# Altium footprint library TPs.PcbLib: 12 footprints
Each footprint in its own frame and in the unit in brackets; x right, y up, seen from the top. Pads: shape width x height; smd on the part's side, far side on the other; paste and mask are expansions set on the pad; w line width, h text height; cw(c..) or ccw(c..) is an arc to the next point about the centre after c.
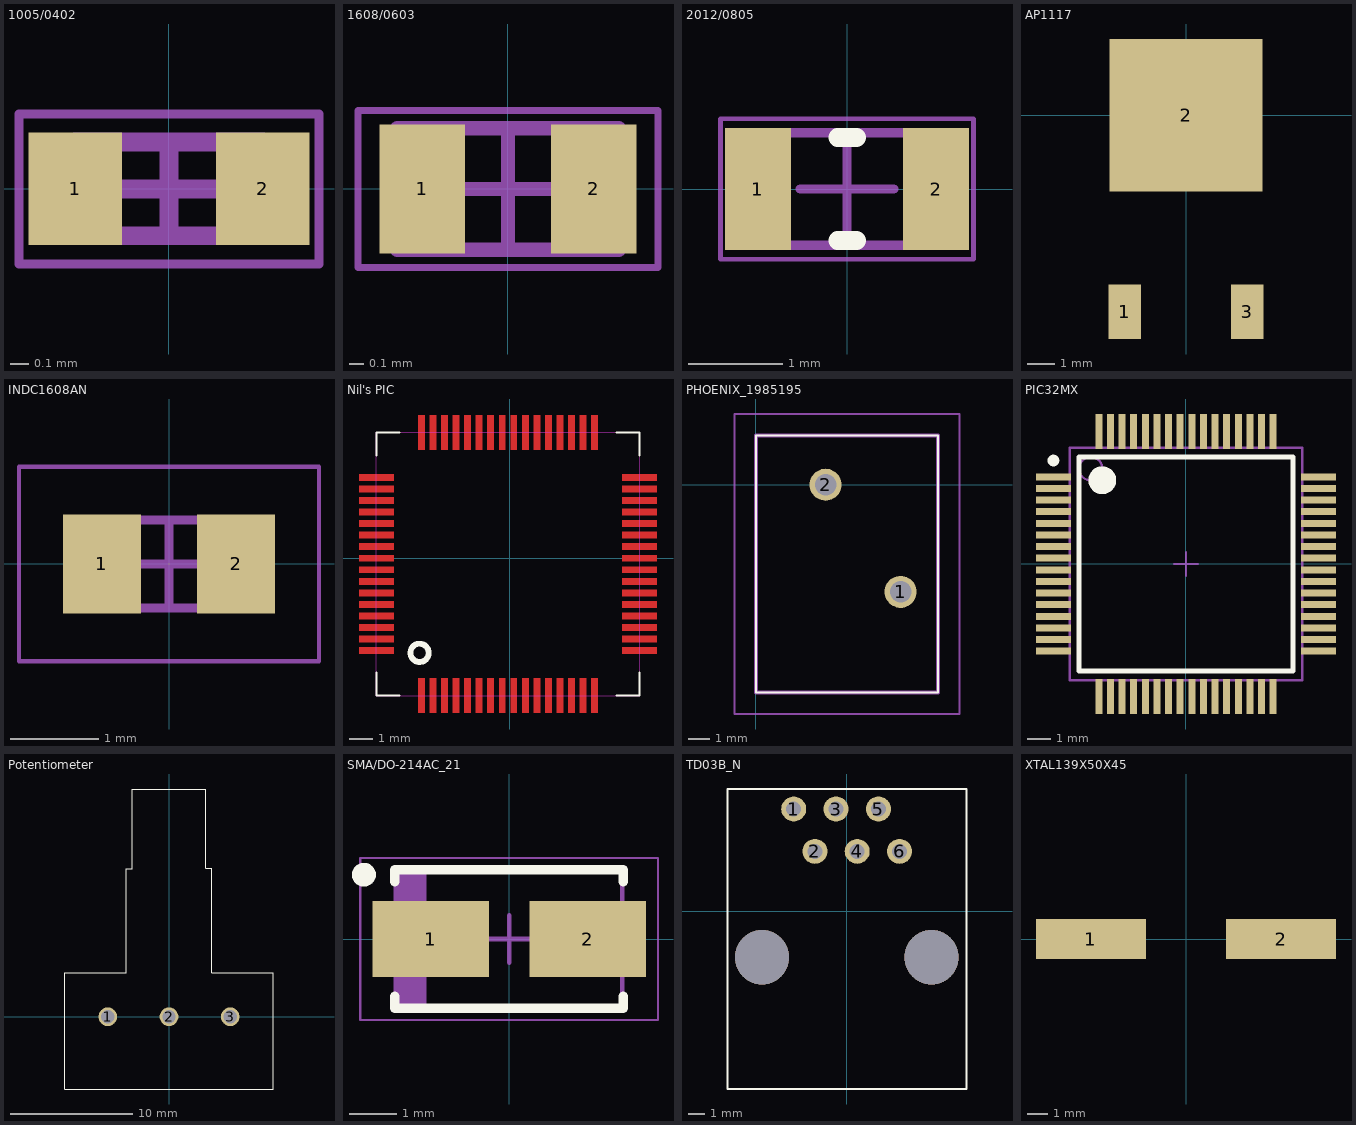
[diagram p0: the footprints below, top view; thin cyan lines are the x and y axes]

## 1005/0402 [mm]
height 0.35
pads (2):
  rect 0.5x0.6 smd: 1(-0.5,0) 2(0.5,0)
Mechanical 13:
  lines w0.1: -0.5,-0.25 -0.5,0.25 0.5,0.25 0.5,-0.25 -0.5,-0.25
Mechanical 15:
  lines w0.05: -0.8,-0.4 -0.8,0.4 0.8,0.4 0.8,-0.4 -0.8,-0.4
  lines w0.1: -0.25,0 0.25,0 ; 0,-0.25 0,0.25
3D body: height 0.35, standoff 0, extent -0.15,-0.25 0.15,0.25
3D body: height 0.35, standoff 0, extent -0.5,-0.25 -0.15,0.25
3D body: height 0.35, standoff 0, extent 0.15,-0.25 0.5,0.25

## 1608/0603 [mm]
height 0.45
pads (2):
  rect 0.6x0.9 smd: 1(-0.6,0) 2(0.6,0)
Mechanical 13:
  lines w0.1: -0.775,-0.425 -0.775,0.425 0.775,0.425 0.775,-0.425 -0.775,-0.425
Mechanical 15:
  lines w0.05: -1.05,-0.55 -1.05,0.55 1.05,0.55 1.05,-0.55 -1.05,-0.55
  lines w0.1: -0.425,0 0.425,0 ; 0,-0.425 0,0.425
3D body: height 0.45, standoff 0, extent -0.325,-0.425 0.325,0.425
3D body: height 0.45, standoff 0, extent -0.775,-0.425 -0.325,0.425
3D body: height 0.45, standoff 0, extent 0.325,-0.425 0.775,0.425

## 2012/0805 [mm]
height 0.45
pads (2):
  rect 0.7x1.3 smd: 1(-0.95,0) 2(0.95,0)
Top Overlay:
  lines w0.2: -0.1,-0.55 0.1,-0.55 ; -0.1,0.55 0.1,0.55
Mechanical 13:
  lines w0.1: -1,-0.6 1,-0.6 1,0.6 -1,0.6 -1,-0.6
Mechanical 15:
  lines w0.05: -1.35,-0.75 1.35,-0.75 1.35,0.75 -1.35,0.75 -1.35,-0.75
  lines w0.1: -0.5,0 0.5,0 ; 0,-0.5 0,0.5
3D body: height 0.45, standoff 0, extent 0.55,-0.6 1,0.6
3D body: height 0.45, standoff 0, extent -1,-0.6 -0.55,0.6
3D body: height 0.45, standoff 0, extent -0.55,-0.6 0.55,0.6

## AP1117 [mm]
pads (3):
  rect 1.2x2 smd: 1(-2.25,-7.2) 3(2.25,-7.2)
  rect 5.6x5.6 smd: 2(0,0)

## INDC1608AN [mm]
height 0.8
pads (2):
  rect 0.88x1.12 smd: 1(-0.76,0) 2(0.76,0)
Mechanical 13:
  lines w0.1: -0.9,-0.5 0.9,-0.5 0.9,0.5 -0.9,0.5 -0.9,-0.5
Mechanical 15:
  lines w0.05: -1.7,-1.1 1.7,-1.1 1.7,1.1 -1.7,1.1 -1.7,-1.1
  lines w0.1: -0.5,0 0.5,0 ; 0,-0.5 0,0.5
3D body: height 0.8, standoff 0, extent 0.6,-0.5 0.9,0.5
3D body: height 0.8, standoff 0, extent -0.9,-0.5 -0.6,0.5
3D body: height 0.8, standoff 0, extent -0.6,-0.5 0.6,0.5

## Nil's PIC [mm]
Top Layer:
  region: -6.52,-0.34 -6.52,-0.64 -5.02,-0.64 -5.02,-0.34
  region: -6.52,-0.84 -6.52,-1.14 -5.02,-1.14 -5.02,-0.84
  region: -6.52,-1.84 -6.52,-2.14 -5.02,-2.14 -5.02,-1.84
  region: -6.52,-1.34 -6.52,-1.64 -5.02,-1.64 -5.02,-1.34
  region: -6.52,-3.34 -6.52,-3.64 -5.02,-3.64 -5.02,-3.34
  region: -6.52,-3.84 -6.52,-4.14 -5.02,-4.14 -5.02,-3.84
  region: -6.52,-2.84 -6.52,-3.14 -5.02,-3.14 -5.02,-2.84
  region: -6.52,-2.34 -6.52,-2.64 -5.02,-2.64 -5.02,-2.34
  region: -6.52,1.66 -6.52,1.36 -5.02,1.36 -5.02,1.66
  region: -6.52,1.16 -6.52,0.86 -5.02,0.86 -5.02,1.16
  region: -6.52,0.16 -6.52,-0.14 -5.02,-0.14 -5.02,0.16
  region: -6.52,0.66 -6.52,0.36 -5.02,0.36 -5.02,0.66
  region: -6.52,2.66 -6.52,2.36 -5.02,2.36 -5.02,2.66
  region: -6.52,2.16 -6.52,1.86 -5.02,1.86 -5.02,2.16
  region: -6.52,3.16 -6.52,2.86 -5.02,2.86 -5.02,3.16
  region: -6.52,3.66 -6.52,3.36 -5.02,3.36 -5.02,3.66
  region: 4.88,-0.34 4.88,-0.64 6.38,-0.64 6.38,-0.34
  region: 4.88,-0.84 4.88,-1.14 6.38,-1.14 6.38,-0.84
  region: 4.88,-1.84 4.88,-2.14 6.38,-2.14 6.38,-1.84
  region: 4.88,-1.34 4.88,-1.64 6.38,-1.64 6.38,-1.34
  region: 4.88,-3.34 4.88,-3.64 6.38,-3.64 6.38,-3.34
  region: 4.88,-3.84 4.88,-4.14 6.38,-4.14 6.38,-3.84
  region: 4.88,-2.84 4.88,-3.14 6.38,-3.14 6.38,-2.84
  region: 4.88,-2.34 4.88,-2.64 6.38,-2.64 6.38,-2.34
  region: 4.88,1.66 4.88,1.36 6.38,1.36 6.38,1.66
  region: 4.88,1.16 4.88,0.86 6.38,0.86 6.38,1.16
  region: 4.88,0.16 4.88,-0.14 6.38,-0.14 6.38,0.16
  region: 4.88,0.66 4.88,0.36 6.38,0.36 6.38,0.66
  region: 4.88,2.66 4.88,2.36 6.38,2.36 6.38,2.66
  region: 4.88,2.16 4.88,1.86 6.38,1.86 6.38,2.16
  region: 4.88,3.16 4.88,2.86 6.38,2.86 6.38,3.16
  region: 4.88,3.66 4.88,3.36 6.38,3.36 6.38,3.66
  rectangle: 0.03,4.71 0.33,6.21
  rectangle: 0.53,4.71 0.83,6.21
  rectangle: 1.53,4.71 1.83,6.21
  rectangle: 1.03,4.71 1.33,6.21
  rectangle: 3.03,4.71 3.33,6.21
  rectangle: 3.53,4.71 3.83,6.21
  rectangle: 2.53,4.71 2.83,6.21
  rectangle: 2.03,4.71 2.33,6.21
  rectangle: -1.97,4.71 -1.67,6.21
  rectangle: -1.47,4.71 -1.17,6.21
  rectangle: -0.47,4.71 -0.17,6.21
  rectangle: -0.97,4.71 -0.67,6.21
  rectangle: -2.97,4.71 -2.67,6.21
  rectangle: -2.47,4.71 -2.17,6.21
  rectangle: -3.47,4.71 -3.17,6.21
  rectangle: -3.97,4.71 -3.67,6.21
  rectangle: -3.97,-6.69 -3.67,-5.19
  rectangle: -3.47,-6.69 -3.17,-5.19
  rectangle: -2.47,-6.69 -2.17,-5.19
  rectangle: -2.97,-6.69 -2.67,-5.19
  rectangle: -0.97,-6.69 -0.67,-5.19
  rectangle: -0.47,-6.69 -0.17,-5.19
  rectangle: -1.47,-6.69 -1.17,-5.19
  rectangle: -1.97,-6.69 -1.67,-5.19
  rectangle: 2.03,-6.69 2.33,-5.19
  rectangle: 2.53,-6.69 2.83,-5.19
  rectangle: 3.53,-6.69 3.83,-5.19
  rectangle: 3.03,-6.69 3.33,-5.19
  rectangle: 1.03,-6.69 1.33,-5.19
  rectangle: 1.53,-6.69 1.83,-5.19
  rectangle: 0.53,-6.69 0.83,-5.19
  rectangle: 0.03,-6.69 0.33,-5.19
Top Overlay:
  circle w0.254: c-3.9,-4.09 r0.397
  lines w0.1: -5.77,-4.94 -5.77,-5.94 -4.77,-5.94 ; -5.77,4.46 -5.77,5.46 -4.77,5.46 ; 4.63,-5.94 5.63,-5.94 5.63,-4.94 ; 4.63,5.46 5.63,5.46 5.63,4.46
Top Solder:
  region: -6.57,-0.29 -6.57,-0.69 -4.97,-0.69 -4.97,-0.29
  region: -6.57,-0.79 -6.57,-1.19 -4.97,-1.19 -4.97,-0.79
  region: -6.57,-1.79 -6.57,-2.19 -4.97,-2.19 -4.97,-1.79
  region: -6.57,-1.29 -6.57,-1.69 -4.97,-1.69 -4.97,-1.29
  region: -6.57,-3.29 -6.57,-3.69 -4.97,-3.69 -4.97,-3.29
  region: -6.57,-3.79 -6.57,-4.19 -4.97,-4.19 -4.97,-3.79
  region: -6.57,-2.79 -6.57,-3.19 -4.97,-3.19 -4.97,-2.79
  region: -6.57,-2.29 -6.57,-2.69 -4.97,-2.69 -4.97,-2.29
  region: -6.57,1.71 -6.57,1.31 -4.97,1.31 -4.97,1.71
  region: -6.57,1.21 -6.57,0.81 -4.97,0.81 -4.97,1.21
  region: -6.57,0.21 -6.57,-0.19 -4.97,-0.19 -4.97,0.21
  region: -6.57,0.71 -6.57,0.31 -4.97,0.31 -4.97,0.71
  region: -6.57,2.71 -6.57,2.31 -4.97,2.31 -4.97,2.71
  region: -6.57,2.21 -6.57,1.81 -4.97,1.81 -4.97,2.21
  region: -6.57,3.21 -6.57,2.81 -4.97,2.81 -4.97,3.21
  region: -6.57,3.71 -6.57,3.31 -4.97,3.31 -4.97,3.71
  region: 4.83,-0.29 4.83,-0.69 6.43,-0.69 6.43,-0.29
  region: 4.83,-0.79 4.83,-1.19 6.43,-1.19 6.43,-0.79
  region: 4.83,-1.79 4.83,-2.19 6.43,-2.19 6.43,-1.79
  region: 4.83,-1.29 4.83,-1.69 6.43,-1.69 6.43,-1.29
  region: 4.83,-3.29 4.83,-3.69 6.43,-3.69 6.43,-3.29
  region: 4.83,-3.79 4.83,-4.19 6.43,-4.19 6.43,-3.79
  region: 4.83,-2.79 4.83,-3.19 6.43,-3.19 6.43,-2.79
  region: 4.83,-2.29 4.83,-2.69 6.43,-2.69 6.43,-2.29
  region: 4.83,1.71 4.83,1.31 6.43,1.31 6.43,1.71
  region: 4.83,1.21 4.83,0.81 6.43,0.81 6.43,1.21
  region: 4.83,0.21 4.83,-0.19 6.43,-0.19 6.43,0.21
  region: 4.83,0.71 4.83,0.31 6.43,0.31 6.43,0.71
  region: 4.83,2.71 4.83,2.31 6.43,2.31 6.43,2.71
  region: 4.83,2.21 4.83,1.81 6.43,1.81 6.43,2.21
  region: 4.83,3.21 4.83,2.81 6.43,2.81 6.43,3.21
  region: 4.83,3.71 4.83,3.31 6.43,3.31 6.43,3.71
  rectangle: -0.02,4.66 0.38,6.26
  rectangle: 0.48,4.66 0.88,6.26
  rectangle: 1.48,4.66 1.88,6.26
  rectangle: 0.98,4.66 1.38,6.26
  rectangle: 2.98,4.66 3.38,6.26
  rectangle: 3.48,4.66 3.88,6.26
  rectangle: 2.48,4.66 2.88,6.26
  rectangle: 1.98,4.66 2.38,6.26
  rectangle: -2.02,4.66 -1.62,6.26
  rectangle: -1.52,4.66 -1.12,6.26
  rectangle: -0.52,4.66 -0.12,6.26
  rectangle: -1.02,4.66 -0.62,6.26
  rectangle: -3.02,4.66 -2.62,6.26
  rectangle: -2.52,4.66 -2.12,6.26
  rectangle: -3.52,4.66 -3.12,6.26
  rectangle: -4.02,4.66 -3.62,6.26
  rectangle: -4.02,-6.74 -3.62,-5.14
  rectangle: -3.52,-6.74 -3.12,-5.14
  rectangle: -2.52,-6.74 -2.12,-5.14
  rectangle: -3.02,-6.74 -2.62,-5.14
  rectangle: -1.02,-6.74 -0.62,-5.14
  rectangle: -0.52,-6.74 -0.12,-5.14
  rectangle: -1.52,-6.74 -1.12,-5.14
  rectangle: -2.02,-6.74 -1.62,-5.14
  rectangle: 1.98,-6.74 2.38,-5.14
  rectangle: 2.48,-6.74 2.88,-5.14
  rectangle: 3.48,-6.74 3.88,-5.14
  rectangle: 2.98,-6.74 3.38,-5.14
  rectangle: 0.98,-6.74 1.38,-5.14
  rectangle: 1.48,-6.74 1.88,-5.14
  rectangle: 0.48,-6.74 0.88,-5.14
  rectangle: -0.02,-6.74 0.38,-5.14
Keep-Out Layer:
  lines w0.01: -5.77,-5.94 -5.77,5.46 5.63,5.46 5.63,-5.94 -5.77,-5.94

## PHOENIX_1985195 [mm]
pads (2):
  round 1.5 hole 1: 1(6.75,-5) 2(3.25,0)
Top Overlay:
  lines w0.1: 0,-9.7 0,2.3 8.5,2.3 8.5,-9.7 0,-9.7
Mechanical 15:
  lines w0.2: 0,-9.7 0,2.3 8.5,2.3 8.5,-9.7 0,-9.7
Mechanical 20:
  lines w0.1: -1,-10.7 -1,3.3 9.5,3.3 9.5,-10.7 -1,-10.7

## PIC32MX [mm] "TSQFP, 64-Leads, Body 10.00x10.00mm, Pitch 0.50mm, IPC Low Density"
height 1.2
pads (64):
  rect 1.5x0.3 smd: 1(-5.7,3.75) 2(-5.7,3.25) 3(-5.7,2.75) 4(-5.7,2.25) 5(-5.7,1.75) 6(-5.7,1.25) 7(-5.7,0.75) 8(-5.7,0.25) 9(-5.7,-0.25) 10(-5.7,-0.75) 11(-5.7,-1.25) 12(-5.7,-1.75) 13(-5.7,-2.25) 14(-5.7,-2.75) 15(-5.7,-3.25) 16(-5.7,-3.75) 33(5.7,-3.75) 34(5.7,-3.25) 35(5.7,-2.75) 36(5.7,-2.25) 37(5.7,-1.75) 38(5.7,-1.25) 39(5.7,-0.75) 40(5.7,-0.25) 41(5.7,0.25) 42(5.7,0.75) 43(5.7,1.25) 44(5.7,1.75) 45(5.7,2.25) 46(5.7,2.75) 47(5.7,3.25) 48(5.7,3.75)
  rect 0.3x1.5 smd: 17(-3.75,-5.7) 18(-3.25,-5.7) 19(-2.75,-5.7) 20(-2.25,-5.7) 21(-1.75,-5.7) 22(-1.25,-5.7) 23(-0.75,-5.7) 24(-0.25,-5.7) 25(0.25,-5.7) 26(0.75,-5.7) 27(1.25,-5.7) 28(1.75,-5.7) 29(2.25,-5.7) 30(2.75,-5.7) 31(3.25,-5.7) 32(3.75,-5.7) 49(3.75,5.7) 50(3.25,5.7) 51(2.75,5.7) 52(2.25,5.7) 53(1.75,5.7) 54(1.25,5.7) 55(0.75,5.7) 56(0.25,5.7) 57(-0.25,5.7) 58(-0.75,5.7) 59(-1.25,5.7) 60(-1.75,5.7) 61(-2.25,5.7) 62(-2.75,5.7) 63(-3.25,5.7) 64(-3.75,5.7)
Top Overlay:
  circle w0.6: c-3.6,3.6 r0.3
  circle w0.25: c-5.7,4.45 r0.125
  lines w0.2: -4.6,-4.6 4.6,-4.6 4.6,4.6 -4.6,4.6 -4.6,-4.6
Mechanical 13:
  circle w0.1: c-4.1,4.1 r0.5
  lines w0.1: -5,-5 5,-5 5,5 -5,5 -5,-5
Mechanical 15:
  lines w0.1: -0.5,0 0.5,0 ; 0,-0.5 0,0.5
3D body: height 1.2, standoff 0.05, extent -5,-5 5,5

## Potentiometer [mil]
pads (3):
  round 60 hole 43.31: 1(-196.85,0) 2(0,0) 3(196.85,0)
Top Overlay:
  lines w3.94: -118.5,476.38 -137.8,476.38 -137.8,141.73 -334.65,141.73 -334.65,-232.28 334.65,-232.28 334.65,141.73 ; -118.11,476.77 -118.11,732.28 118.11,732.28 118.11,476.77 137.8,476.77 137.8,142.13 334.25,142.13

## SMA/DO-214AC_21 [mm]
height 3
pads (2):
  rect 2.45x1.6 smd: 1(-1.65,0) 2(1.65,0)
Top Overlay:
  circle w0.25: c-3.05,1.35 r0.125
  lines w0.2: -2.4,-1.2 -2.4,-1.45 2.4,-1.45 2.4,-1.2 ; -2.4,1.2 -2.4,1.45 2.4,1.45 2.4,1.2
Mechanical 13:
  rectangle: -2.375,-1.45 -1.736,1.45
  lines w0.1: -2.375,-1.45 2.375,-1.45 2.375,1.45 -2.375,1.45 -2.375,-1.45
Mechanical 15:
  lines w0.05: -3.125,-1.7 3.125,-1.7 3.125,1.7 -3.125,1.7 -3.125,-1.7
  lines w0.1: -0.5,0 0.5,0 ; 0,-0.5 0,0.5
3D body: height 3, standoff 0, extent -2.375,-1.45 2.375,1.45

## TD03B_N [mm]
pads (6):
  round 1.5 hole 0.9: 1(-3.19,6.14) 2(-1.92,3.6) 3(-0.65,6.14) 4(0.62,3.6) 5(1.89,6.14) 6(3.16,3.6)
via 5.07,-2.76 diameter 3.25 hole 3.25
via -5.09,-2.76 diameter 3.25 hole 3.25
Top Overlay:
  lines w0.1: -7.16,-10.66 -7.16,7.34 7.17,7.34 7.17,-10.66 -7.16,-10.66

## XTAL139X50X45 [mm]
pads (2):
  rect 5.5x2 smd: 1(-4.75,0) 2(4.75,0)